# Altium schematic symbol library KNPD.SchLib: 30 symbols
Pins are listed as number, name and electrical type; pins without a type are passive.

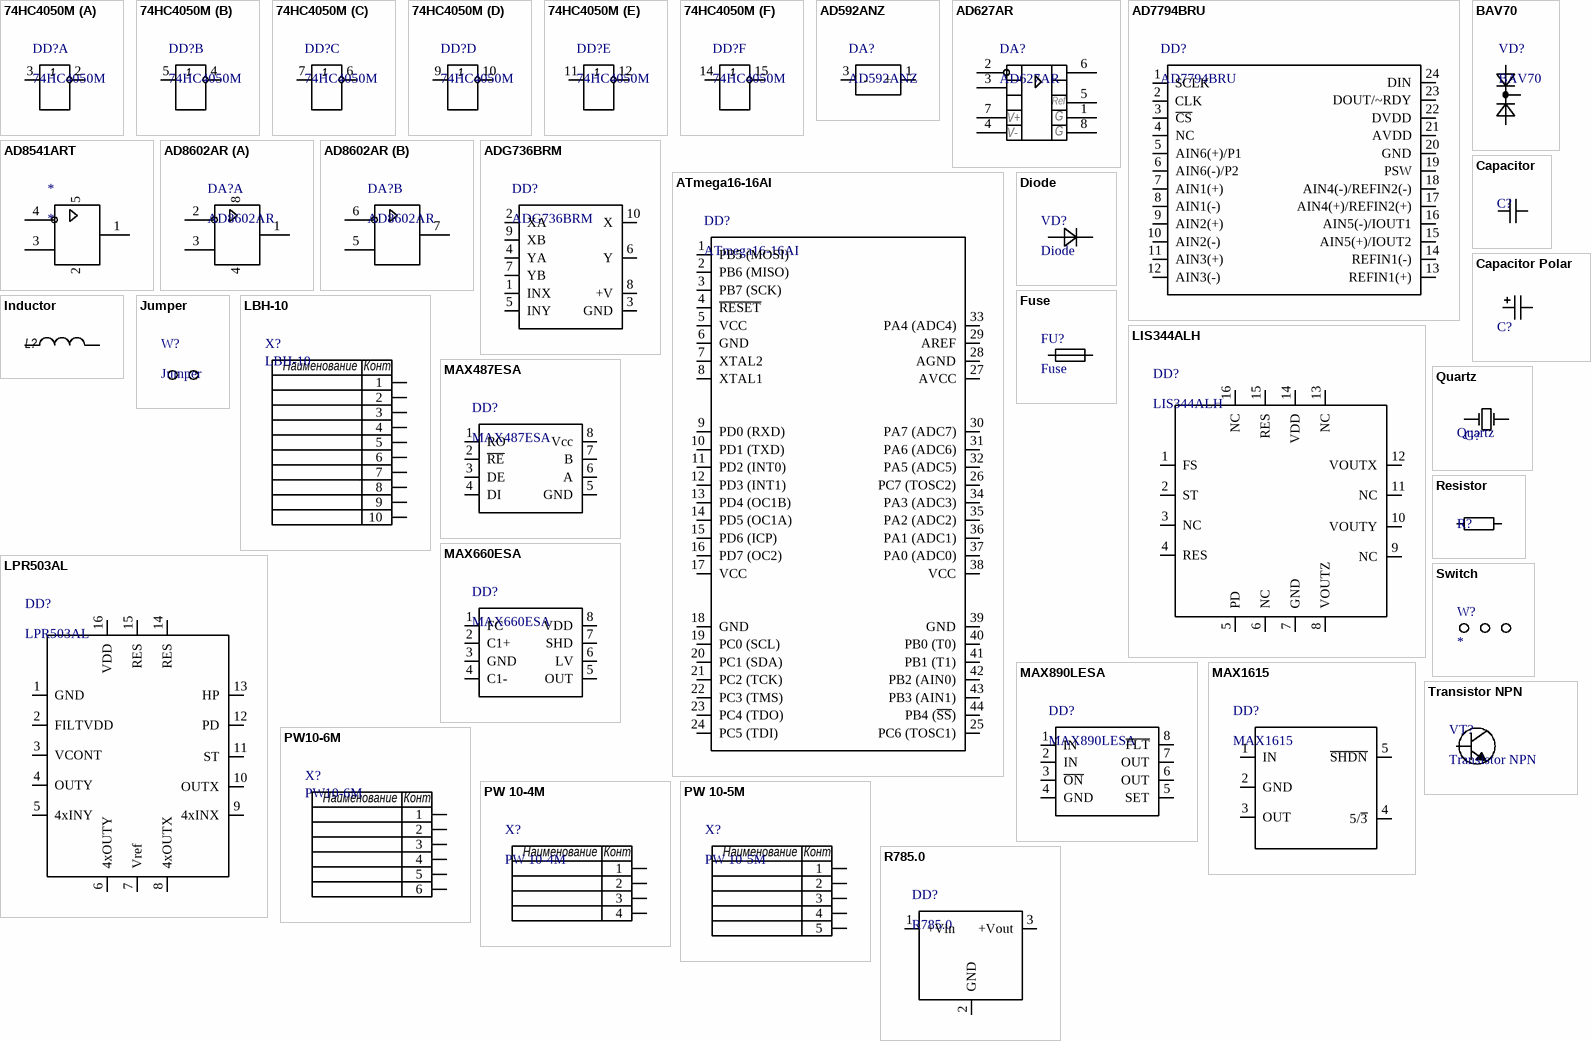
[diagram p0: symbols 74HC4050M to Transistor NPN]

## 74HC4050M
designator DD?
footprint SOIC16
part A pins: 1 VDD (power), 2 1Y, 3 1A, 8 GND (power)
part B pins: 1 VDD (power), 4 2Y, 5 2A, 8 GND (power)
part C pins: 1 VDD (power), 6 2Y, 7 2A, 8 GND (power)
part D pins: 1 VDD (power), 8 GND (power), 9 2A, 10 2Y
part E pins: 1 VDD (power), 8 GND (power), 11 2A, 12 2Y
part F pins: 1 VDD (power), 8 GND (power), 14 2A, 15 2Y

## AD592ANZ
designator DA?
footprint AD592ANZ
pins: 1 +, 3 -

## AD627AR
designator DA?
Right: 40; Bottom: 40
footprint SOIC8
pins: 1 RG, 2 -IN, 3 +IN, 4 -VS, 5 REF, 6 OUTPUT, 7 +VS, 8 RG
text: Ref; V+; G; V-

## AD7794BRU
designator DD?
footprint TSOP24
pins: 1 SCLK, 2 CLK, 3 ~{CS}, 4 NC, 5 AIN6(+)/P1, 6 AIN6(-)/P2, 7 AIN1(+), 8 AIN1(-), 9 AIN2(+), 10 AIN2(-), 11 AIN3(+), 12 AIN3(-), 13 REFIN1(+), 14 REFIN1(-), 15 AIN5(+)/IOUT2, 16 AIN5(-)/IOUT1, 17 AIN4(+)/REFIN2(+), 18 AIN4(-)/REFIN2(-), 19 PSW, 20 GND, 21 AVDD, 22 DVDD, 23 DOUT/~RDY, 24 DIN

## AD8541ART
designator *
footprint SOT23-5
pins: 1, 2 (power), 3, 4, 5 (power)

## AD8602AR
designator DA?
footprint SOIC8
part A pins: 1, 2, 3, 4 (power), 8 (power)
part B pins: 5, 6, 7

## ADG736BRM
designator DD?
footprint ADG736
pins: 1 INX, 2 XA, 3 GND, 4 YA, 5 INY, 6 Y, 7 YB, 8 +V, 9 XB, 10 X

## ATmega16-16AI
designator DD?
footprint TQFP44
pins: 1 PB5 (MOSI), 2 PB6 (MISO), 3 PB7 (SCK), 4 ~{RESET}, 5 VCC, 6 GND, 7 XTAL2, 8 XTAL1, 9 PD0 (RXD), 10 PD1 (TXD), 11 PD2 (INT0), 12 PD3 (INT1), 13 PD4 (OC1B), 14 PD5 (OC1A), 15 PD6 (ICP), 16 PD7 (OC2), 17 VCC, 18 GND, 19 PC0 (SCL), 20 PC1 (SDA), 21 PC2 (TCK), 22 PC3 (TMS), 23 PC4 (TDO), 24 PC5 (TDI), 25 PC6 (TOSC1), 26 PC7 (TOSC2), 27 AVCC, 28 AGND, 29 AREF, 30 PA7 (ADC7), 31 PA6 (ADC6), 32 PA5 (ADC5), 33 PA4 (ADC4), 34 PA3 (ADC3), 35 PA2 (ADC2), 36 PA1 (ADC1), 37 PA0 (ADC0), 38 VCC, 39 GND, 40 PB0 (T0), 41 PB1 (T1), 42 PB2 (AIN0), 43 PB3 (AIN1), 44 PB4 (~{SS})

## BAV70
designator VD?
footprint SOT-23
pins: 1 A1, 2 A2, 3 CK

## Capacitor
designator C?  (value not drawn)
Value: 20000pF; Coment: 0.02; Published: 8-Jun-2000; Revision: July-2002: Re-released for DXP Platform.; Publisher: Altium Limited
footprint 0805 (Чип резистор; Размер 2 x 1.3 мм (Д x Ш))
pins: 1, 2

## Capacitor Polar
designator C?  (value not drawn)
Value: 100pF; Published: 8-Jun-2000; Revision: July-2002: Re-released for DXP Platform.; Publisher: Altium Limited
footprint A
footprint D
pins: 1, 2

## Diode
designator VD?
footprint DIODE
pins: 1 A, 2 K

## Fuse
designator FU?
footprint FUSE
pins: 1, 2

## Inductor
designator L?  (value not drawn)
Value: 10mH; Published: 8-Jun-2000; Revision: July-2002: Re-released for DXP Platform.; Publisher: Altium Limited
footprint 0805
footprint 1210
footprint 2220
pins: 1, 2

## Jumper
designator W?
Right: 20; Bottom: 20
footprint PLS 1x2
pins: 1, 2

## LBH-10
designator X?
footprint LBH10
pins: 1, 2, 3, 4, 5, 6, 7, 8, 9, 10
text: Наименование; Конт.

## LIS344ALH
designator DD?
footprint LGA16L_4X4
pins: 1 FS, 2 ST, 3 NC, 4 RES, 5 PD, 6 NC, 7 GND, 8 VOUTZ, 9 NC, 10 VOUTY, 11 NC, 12 VOUTX, 13 NC, 14 VDD, 15 RES, 16 NC

## LPR503AL
designator DD?
footprint LGA16L_5X5
pins: 1 GND, 2 FILTVDD, 3 VCONT, 4 OUTY, 5 4xINY, 6 4xOUTY, 7 Vref, 8 4xOUTX, 9 4xINX, 10 OUTX, 11 ST, 12 PD, 13 HP, 14 RES, 15 RES, 16 VDD

## MAX487ESA
designator DD?
footprint SOIC8
pins: 1 RO, 2 ~{RE}, 3 DE, 4 DI, 5 GND, 6 A, 7 B, 8 Vcc

## MAX660ESA
designator DD?
footprint SOIC8
pins: 1 FC, 2 C1+, 3 GND, 4 C1-, 5 OUT, 6 LV, 7 SHD, 8 VDD

## MAX890LESA
designator DD?
footprint SOIC8
pins: 1 IN, 2 IN, 3 ~{ON}, 4 GND, 5 SET, 6 OUT, 7 OUT, 8 ~{FLT}

## MAX1615
designator DD?
footprint SOT23-5
pins: 1 IN, 2 GND, 3 OUT, 4 5/~{3}, 5 ~{SHDN}

## PW10-6M
designator X?
footprint PW10-6M
pins: 1, 2, 3, 4, 5, 6
text: Наименование; Конт.

## PW 10-4M
designator X?
footprint PW10-4M
pins: 1, 2, 3, 4
text: Наименование; Конт.

## PW 10-5M
designator X?
footprint PW10-5M
pins: 1, 2, 3, 4, 5
text: Наименование; Конт.

## Quartz
designator G?
Published: 8-Jun-2000; Revision: July-2002: Re-released for DXP Platform.; Publisher: Altium Limited
footprint QUARTZ
pins: 1 OSC1, 2 OSC2

## R785.0
designator DD?
footprint R-785.0
pins: 1 +Vin, 2 GND, 3 +Vout

## Resistor
designator R?  (value not drawn)
Value: 100K; Published: 8-Jun-2000; Revision: July-2002: Re-released for DXP Platform.; Publisher: Altium Limited
footprint 0805 (Чип резистор; Размер 2 x 1.3 мм (Д x Ш))
pins: 1, 2
1 alternate drawing of the same symbol

## Switch
designator W?
Right: 20; Bottom: 10
footprint PLS 1x3
pins: 1, 2, 3

## Transistor NPN
designator VT?
footprint SOT-23
pins: 1 B, 2 E, 3 C